# Altium footprint library BQ27220YZFR.PcbLib: 1 footprints
Each footprint in its own frame and in the unit in brackets; x right, y up, seen from the top. Pads: shape width x height; smd on the part's side, far side on the other; paste and mask are expansions set on the pad; w line width, h text height; cw(c..) or ccw(c..) is an arc to the next point about the centre after c.
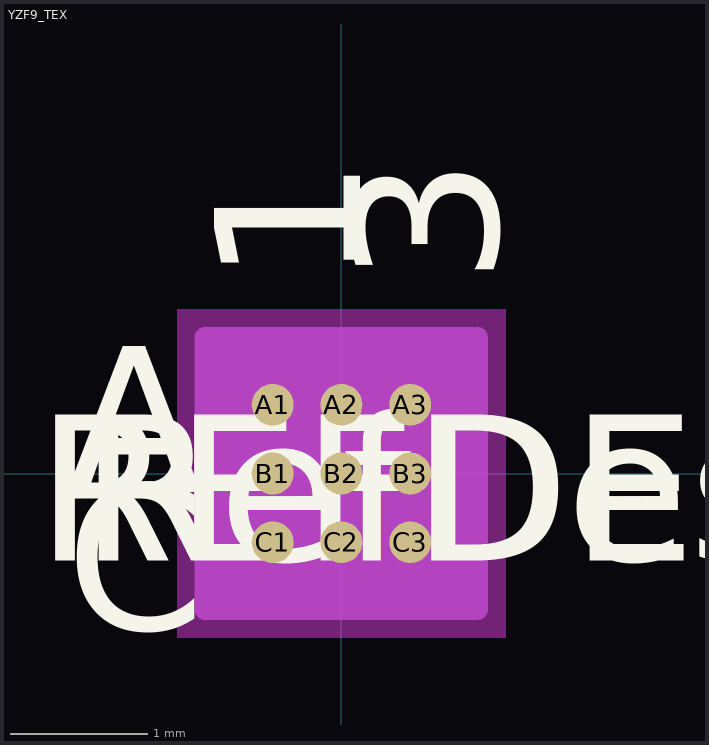
[diagram p0: the footprint, top view; thin cyan lines are the x and y axes]

## YZF9_TEX [mil]
pads (9):
  round 12 smd paste+0 mask+0: A1(-19.68,19.68) A2(0,19.68) A3(19.68,19.68) B1(-19.68,0) B2(0,0) B3(19.68,0) C1(-19.68,-19.68) C2(0,-19.68) C3(19.68,-19.68)
Top Overlay:
  text "A" at -79,-5.32 h50
  text "C" at -79,-44.69 h50
  text "1" at 5.32,54 h50
  text "3" at 44.69,54 h50
  text "RefDes" at -75,-25 h50
  text "REFDES" at -87.5,-25 h50
Bottom Overlay:
  text "A" at -54,-5.32 h50
  text "C" at -54,-44.69 h50
  text "1" at -44.69,54 h50
  text "3" at -5.32,54 h50
Keep-Out Layer:
  region: -47.03,-47.03 -47.03,47.03 47.03,47.03 47.03,-47.03
Mechanical 13:
  lines w1: -29,19.16 -19.16,29 ; -29,-29 29,-29 29,29 -29,29 -29,-29
  text "A" at -79,-5.32 h50
  text "C" at -79,-44.69 h50
  text "1" at 5.32,54 h50
  text "3" at 44.69,54 h50
  text "RefDes2" at -87.5,-25 h50
Mechanical 15:
  region: 39,-39 -39,-39 -39,39 39,39
  lines w6: -39,-39 -39,39 39,39 39,-39 -39,-39
3D body "YZF9_TEX.step": height 50.12, standoff -0.02, extent -29.02,-29.02 29.02,29.02